# Altium footprint library USBM26FTR.PcbLib: 1 footprints
Each footprint in its own frame and in the unit in brackets; x right, y up, seen from the top. Pads: shape width x height; smd on the part's side, far side on the other; paste and mask are expansions set on the pad; w line width, h text height; cw(c..) or ccw(c..) is an arc to the next point about the centre after c.
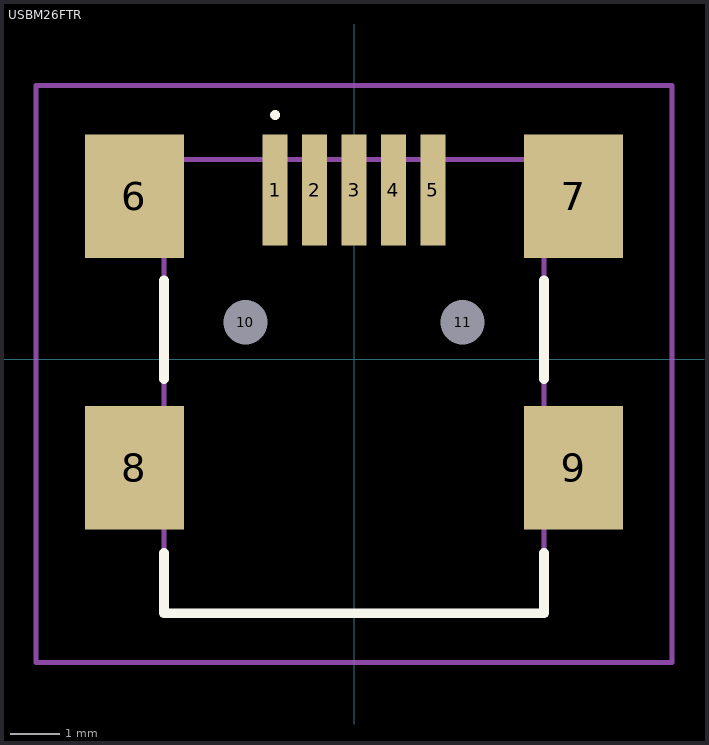
[diagram p0: the footprint, top view; thin cyan lines are the x and y axes]

## USBM26FTR [mm]
pads (11):
  rect 0.5x2.25 smd: 1(-1.6,3.425) 2(-0.8,3.425) 3(0,3.425) 4(0.8,3.425) 5(1.6,3.425)
  rect 2x2.5 smd: 6(-4.45,3.3) 7(4.45,3.3) 8(-4.45,-2.2) 9(4.45,-2.2)
  round 0.45 hole 0.9 unplated: 10(-2.2,0.75) 11(2.2,0.75)
Top Overlay:
  lines w0.1: -1.6,4.9 -1.6,4.9 ; -1.6,4.9 ccw(c-1.6,4.95) -1.6,5 ; -1.6,4.9 cw(c-1.6,4.95) -1.6,5 ; -1.6,5 -1.6,5
  lines w0.2: -3.85,-3.925 -3.85,-5.15 3.85,-5.15 3.85,-3.925 ; -3.85,-0.4 -3.85,1.6 ; 3.85,-0.4 3.85,1.6
Mechanical 15:
  lines w0.1: -3.85,-5.15 3.85,-5.15 3.85,4.05 -3.85,4.05 -3.85,-5.15
Mechanical 20:
  lines w0.1: -6.45,-6.15 6.45,-6.15 6.45,5.55 -6.45,5.55 -6.45,-6.15